# EAGLE library part HMC5983 (library DubSat1 Components)
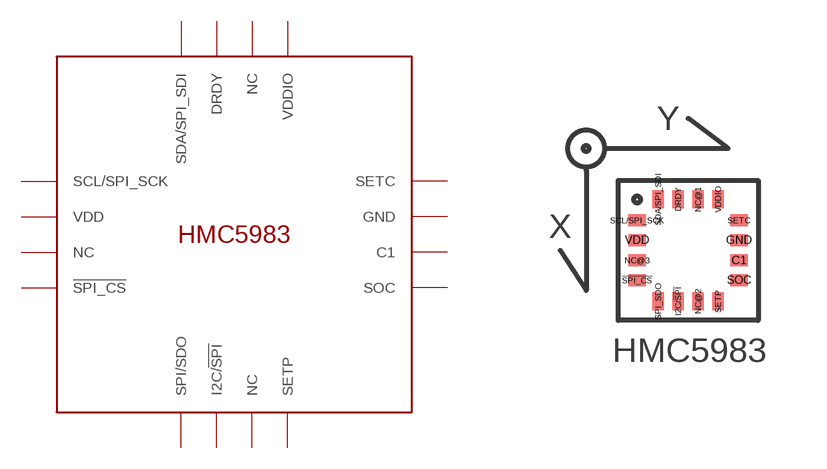
[diagram p5: symbol with the pads of HMC5983; footprint HMC5983]

Designator prefix U

## HMC5983  [HMC5983]
!SPI_CS  !SPI_CS
C1  C1
DRDY  DRDY
GND  GND
I2C/!SPI  I2C/!SPI
NC@1  NC
NC@2  NC
NC@3  NC
SCL/SPI_SCK  SCL/SPI_SCK
SDA/SPI_SDI  SDA/SPI_SDI
SETC  SETC
SETP  SETP
SOC  SOC
SPI_SDO  SPI/SDO
VDD  VDD
VDDIO  VDDIO

## Footprint HMC5983 (pad centres in mm)
smd 0.45 x 0.3: !SPI_CS -1.275,-0.75; C1 1.275,-0.25; GND 1.275,0.25; NC@3 -1.275,-0.25; SCL/SPI_SCK -1.275,0.75; SETC 1.275,0.75; SOC 1.275,-0.75; VDD -1.275,0.25
smd 0.3 x 0.45: DRDY -0.25,1.275; I2C/!SPI -0.25,-1.275; NC@1 0.25,1.275; NC@2 0.25,-1.275; SDA/SPI_SDI -0.75,1.275; SETP 0.75,-1.275; SPI_SDO -0.75,-1.275; VDDIO 0.75,1.275